# EAGLE library part SN74LVC1G3157DCKR (library SN74LVC1G3157DCKR)
Check availability <https://pricing.snapeda.com/parts/SN74LVC1G3157DCKR/Texas%20Instruments/view-part?ref=eda>
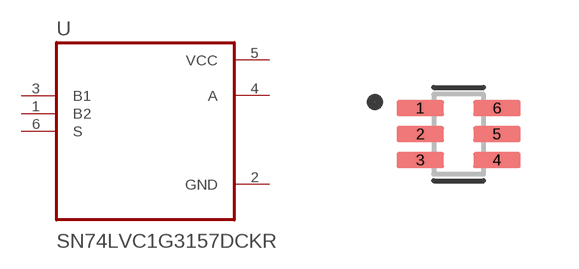
[diagram p0: symbol with the pads of SOT65P210X110-6N; footprint SOT65P210X110-6N]

Designator prefix U

## SN74LVC1G3157DCKR (Availability: In Stock; Description: 5-V, 2:1 (SPDT), 1-channel general-purpose analog switch; MF: Texas Instruments; MP: SN74LVC1G3157DCKR; Package: SOT-SC70-6 Texas Instruments; Price: None; Purchase-URL: https://pricing.snapeda.com/search/part/SN74LVC1G3157DCKR/?ref=eda)  [SOT65P210X110-6N]
1  B2  in
2  GND  pwr
3  B1  in
4  A  out
5  VCC  pwr
6  S  in

## Footprint SOT65P210X110-6N (pad centres in mm)
smd 1.19 x 0.4: 1 -0.96,0.65; 2 -0.96,0; 3 -0.96,-0.65; 4 0.96,-0.65; 5 0.96,0; 6 0.96,0.65